# EAGLE library part LT1762EMS8-5PBF (library LDO)
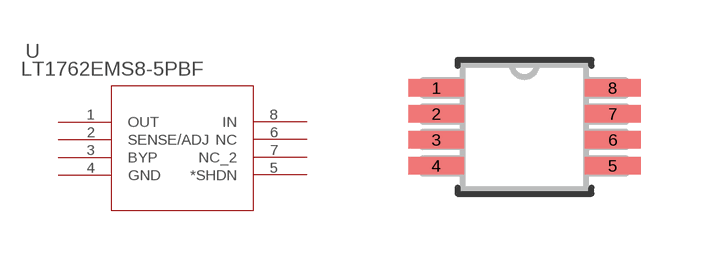
[diagram p0: symbol with the pads of MSOP-8_MS; footprint MSOP-8_MS]

Designator prefix U

## LT1762EMS8-5PBF (AVAILABILITY: Good; DESCRIPTION: PMIC - LDO voltage regulator Linear Technology LT1762EMS8-5#PBF Positive, fixed MSOP 8; MF: Linear Technology; MP: LT1762EMS8-5#PBF; PACKAGE: TSSOP-8 Linear Technology; PRICE: 1.89 USD)  [MSOP-8_MS]
1  OUT  out
2  SENSE/ADJ
3  BYP  out
4  GND  pwr
5  *SHDN  out
6  NC  nc
7  NC_2  nc
8  IN  in

## Footprint MSOP-8_MS (pad centres in mm)
smd 1.397 x 0.432: 1 -2.21,0.975; 2 -2.21,0.325; 3 -2.21,-0.325; 4 -2.21,-0.975; 5 2.21,-0.975; 6 2.21,-0.325; 7 2.21,0.325; 8 2.21,0.975